# EAGLE library part SERVO_HEADERS_8X (library BeagleBone_Blue_R3)
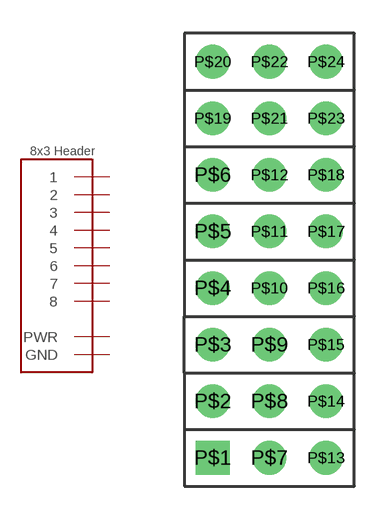
[diagram p0: symbol with the pads of DIODE_3X8_0.1"_HEADER; footprint DIODE_3X8_0.1"_HEADER]

Designator prefix -

## SERVO_HEADERS_8X  [DIODE_3X8_0.1"_HEADER]
P$1  1
P$2  2
P$3  3
P$4  4
P$5  5
P$6  6
P$7  PWR
P$8  PWR
P$9  PWR
P$10  PWR
P$11  PWR
P$12  PWR
P$13  GND
P$14  GND
P$15  GND
P$16  GND
P$17  GND
P$18  GND
P$19  7
P$20  8
P$21  PWR
P$22  PWR
P$23  GND
P$24  GND

## Footprint DIODE_3X8_0.1"_HEADER (pad centres in mm)
drill 1 square: P$1 -2.54,-17.78
drill 1: P$2 -2.54,-15.24; P$3 -2.54,-12.7; P$4 -2.54,-10.16; P$5 -2.54,-7.62; P$6 -2.54,-5.08; P$7 0,-17.78; P$8 0,-15.24; P$9 0,-12.7; P$10 0,-10.16; P$11 0,-7.62; P$12 0,-5.08; P$13 2.54,-17.78; P$14 2.54,-15.24; P$15 2.54,-12.7; P$16 2.54,-10.16; P$17 2.54,-7.62; P$18 2.54,-5.08; P$19 -2.54,-2.54; P$20 -2.54,0; P$21 0,-2.54; P$22 0,0; P$23 2.54,-2.54; P$24 2.54,0